# Altium integrated library dsps.IntLib: 1 symbol
Pins are listed as number, name and electrical type; pins without a type are passive.

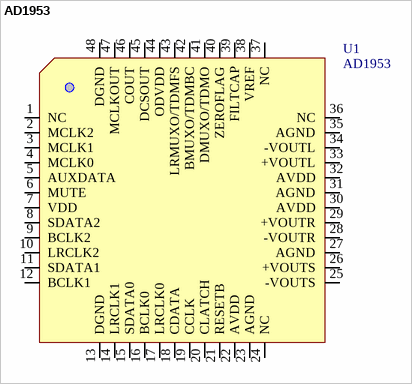
[diagram p0: symbol AD1953]

## AD1953
designator U1
footprint LQFP48 (Footprint not found)
pins: 1 NC, 2 MCLK2, 3 MCLK1, 4 MCLK0, 5 AUXDATA, 6 MUTE, 7 VDD, 8 SDATA2, 9 BCLK2, 10 LRCLK2, 11 SDATA1, 12 BCLK1, 13 DGND, 14 LRCLK1, 15 SDATA0, 16 BCLK0, 17 LRCLK0, 18 CDATA, 19 CCLK, 20 CLATCH, 21 RESETB, 22 AVDD, 23 AGND, 24 NC, 25 -VOUTS, 26 +VOUTS, 27 AGND, 28 -VOUTR, 29 +VOUTR, 30 AVDD, 31 AGND, 32 AVDD, 33 +VOUTL, 34 -VOUTL, 35 AGND, 36 NC, 37 NC, 38 VREF, 39 FILTCAP, 40 ZEROFLAG, 41 DMUXO/TDMO, 42 BMUXO/TDMBC, 43 LRMUXO/TDMFS, 44 ODVDD, 45 DCSOUT, 46 COUT, 47 MCLKOUT, 48 DGND